# Altium footprint library ROS_E7S20A-40MX5-Z.PcbLib: 1 footprints
Each footprint in its own frame and in the unit in brackets; x right, y up, seen from the top. Pads: shape width x height; smd on the part's side, far side on the other; paste and mask are expansions set on the pad; w line width, h text height; cw(c..) or ccw(c..) is an arc to the next point about the centre after c.
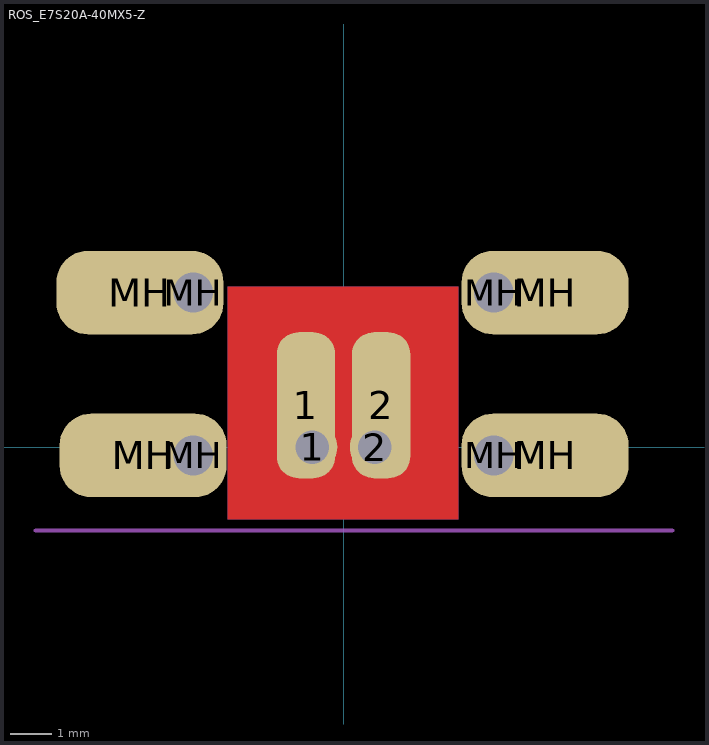
[diagram p0: the footprint, top view; thin cyan lines are the x and y axes]

## ROS_E7S20A-40MX5-Z [mm] "Rosenberger MTD Right Angle Plug for PCB"
height 5.8
pads (12):
  rrect75% 1.4x3.5 smd: 1(-0.9,1) 2(0.9,1)
  round 1.2 hole 0.8: 1(-0.75,0) 2(0.75,0)
  rrect75% 4x2 smd: MH(-4.877,3.7) MH(-4.801,-0.2) MH(4.826,-0.2) MH(4.826,3.7)
  round 1.4 hole 0.95: MH(-3.6,-0.2) MH(-3.6,3.7) MH(3.6,-0.2) MH(3.6,3.7)
Top Layer:
  pour cut-out: -2.769,-1.727 2.743,-1.727 2.743,3.835 -2.769,3.835
  pour cut-out: -2.692,-0.229
Mid-Layer 1:
  pour cut-out: -2.769,-1.727 2.743,-1.727 2.743,3.835 -2.769,3.835
Mid-Layer 2:
  pour cut-out: -2.769,-1.727 2.743,-1.727 2.743,3.835 -2.769,3.835
Mid-Layer 3:
  pour cut-out: -2.769,-1.727 2.743,-1.727 2.743,3.835 -2.769,3.835
Mid-Layer 4:
  pour cut-out: -2.769,-1.727 2.743,-1.727 2.743,3.835 -2.769,3.835
Bottom Layer:
  pour cut-out: -2.769,-1.727 2.743,-1.727 2.743,3.835 -2.769,3.835
Mechanical 3:
  lines w0.1: -7.37,-2 7.87,-2
  text "Board Edge" at -9.601,-2.032 h0.2
3D body "e7s20a-40mxx-z_180201_LV.stp": height 6.4, standoff -2.7, extent -4.525,-8.867 4.475,4.583